# Altium integrated library Capacitors - Ceramic - 0402.IntLib: 4569 symbols (part 13 of 100)
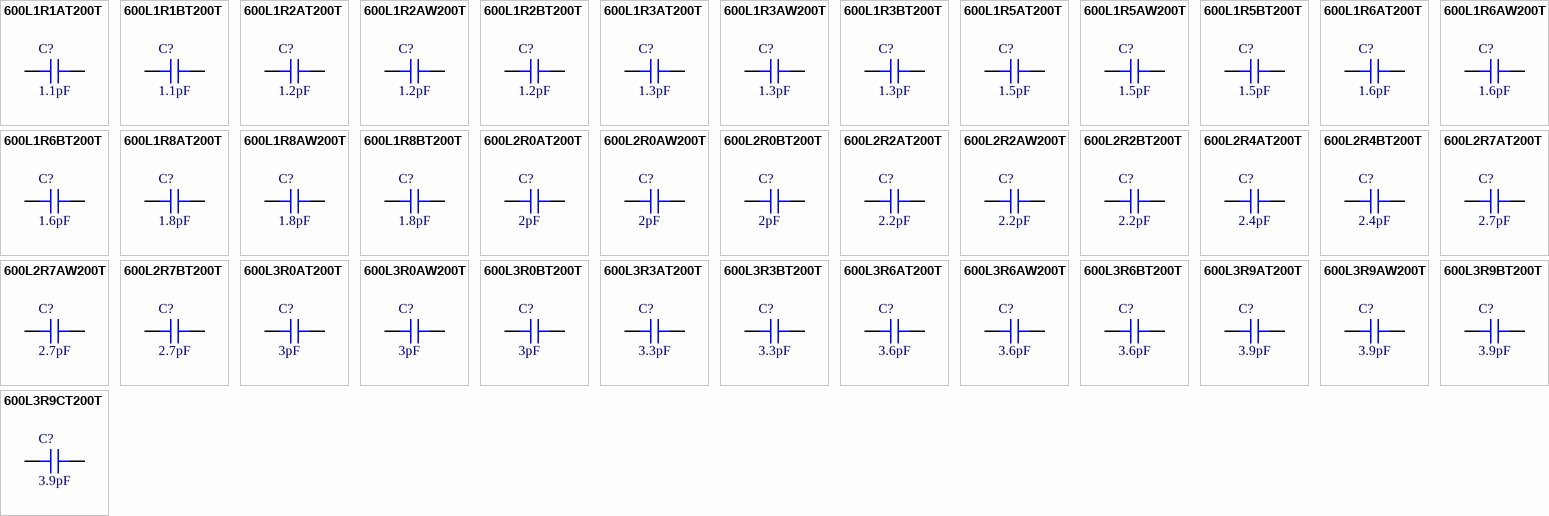
[diagram p126: symbols 600L1R1AT200T to 600L3R9CT200T]

## 600L2R7BT200T
designator C?, comment 2.7pF
CAP CER 2.7PF 200V C0G/NP0 0402; Part Number: 600L2R7BT200T; Manufacturer: American Technical Ceramics; Temperature Coefficient: C0G, NP0; Tolerance: ±0.1pF; Value: 2.7pF; Applications: RF, Microwave, High Frequency, Bypass, Decoupling; Capacitance: 2.7pF; ComponentLink1Description: Datasheet; ComponentLink1URL: http://www.atceramics.com/UserFiles/600l.pdf; ComponentLink2Description: DigiKey Link; ComponentLink2URL: http://digikey.com/product-detail/en/american-technical-ceramics/600L2R7BT200T/1284-1123-1-ND/3905479; Device Package: 0402 (1005 Metric); Features: High Q, Low Loss, Ultra Low ESR; LastUpdated: 9/2/2020 1:02:13 AM; Lifecycle Status: Active; Minimum Order: 1; Mounting Type: Surface Mount, MLCC; Operating Temperature: -55°C ~ 125°C; Package / Case: 0402 (1005 Metric); Packaging: TapeAndReel; PartId: 6941; Part Status: Active; Price: 0.27; Series: ATC 600L; Size / Dimension: 0.040" L x 0.020" W (1.02mm x 0.51mm); Supplier 1: DigiKey; Supplier Part Number 1: 1284-1123-1-ND; Thickness (Max): 0.024" (0.60mm); Voltage - Rated: 200V
footprint CAP 0402_1005
pins: 1, 2

## 600L3R0AT200T
designator C?, comment 3pF
CAP CER 3PF 200V C0G/NP0 0402; Part Number: 600L3R0AT200T; Manufacturer: American Technical Ceramics; Temperature Coefficient: C0G, NP0; Tolerance: ±0.05pF; Value: 3pF; Applications: RF, Microwave, High Frequency, Bypass, Decoupling; Capacitance: 3pF; ComponentLink1Description: Datasheet; ComponentLink1URL: http://www.atceramics.com/UserFiles/600l.pdf; ComponentLink2Description: DigiKey Link; ComponentLink2URL: http://digikey.com/product-detail/en/american-technical-ceramics/600L3R0AT200T/1284-1363-1-ND/5767799; Device Package: 0402 (1005 Metric); Features: High Q, Low Loss, Ultra Low ESR; LastUpdated: 9/2/2020 1:01:30 AM; Lifecycle Status: Active; Minimum Order: 1; Mounting Type: Surface Mount, MLCC; Operating Temperature: -55°C ~ 125°C; Package / Case: 0402 (1005 Metric); Packaging: TapeAndReel; PartId: 12888; Part Status: Active; Price: 0.56; Series: ATC 600L; Size / Dimension: 0.040" L x 0.020" W (1.02mm x 0.51mm); Supplier 1: DigiKey; Supplier Part Number 1: 1284-1363-1-ND; Thickness (Max): 0.024" (0.60mm); Voltage - Rated: 200V
footprint CAP 0402_1005
pins: 1, 2

## 600L3R0AW200T
designator C?, comment 3pF
CAP CER 3PF 200V NP0 0402; Part Number: 600L3R0AW200T; Manufacturer: American Technical Ceramics; Temperature Coefficient: C0G, NP0; Tolerance: ±0.05pF; Value: 3pF; Applications: RF, Microwave, High Frequency, Bypass, Decoupling; Capacitance: 3pF; ComponentLink1Description: Datasheet; ComponentLink1URL: http://www.atceramics.com/UserFiles/600l.pdf; ComponentLink2Description: DigiKey Link; ComponentLink2URL: http://digikey.com/product-detail/en/american-technical-ceramics/600L3R0AW200T/478-12303-1-ND/9602740; Device Package: 0402 (1005 Metric); Features: High Q, Low Loss, Ultra Low ESR; LastUpdated: 9/2/2020 1:02:08 AM; Lifecycle Status: Active; Minimum Order: 1; Mounting Type: Surface Mount, MLCC; Operating Temperature: -55°C ~ 125°C; Package / Case: 0402 (1005 Metric); Packaging: TapeAndReel; PartId: 9190; Part Status: Active; Price: 0.46; Series: ATC 600L; Size / Dimension: 0.040" L x 0.020" W (1.02mm x 0.51mm); Supplier 1: DigiKey; Supplier Part Number 1: 478-12303-1-ND; Thickness (Max): 0.024" (0.60mm); Voltage - Rated: 200V
footprint CAP 0402_1005
pins: 1, 2

## 600L3R0BT200T
designator C?, comment 3pF
CAP CER 3PF 200V C0G/NP0 0402; Part Number: 600L3R0BT200T; Manufacturer: American Technical Ceramics; Temperature Coefficient: C0G, NP0; Tolerance: ±0.1pF; Value: 3pF; Applications: RF, Microwave, High Frequency, Bypass, Decoupling; Capacitance: 3pF; ComponentLink1Description: Datasheet; ComponentLink1URL: http://www.atceramics.com/UserFiles/600l.pdf; ComponentLink2Description: DigiKey Link; ComponentLink2URL: http://digikey.com/product-detail/en/american-technical-ceramics/600L3R0BT200T/1284-1124-1-ND/3905480; Device Package: 0402 (1005 Metric); Features: High Q, Low Loss, Ultra Low ESR; LastUpdated: 9/2/2020 1:02:13 AM; Lifecycle Status: Active; Minimum Order: 1; Mounting Type: Surface Mount, MLCC; Operating Temperature: -55°C ~ 125°C; Package / Case: 0402 (1005 Metric); Packaging: TapeAndReel; PartId: 6862; Part Status: Active; Price: 0.27; Series: ATC 600L; Size / Dimension: 0.040" L x 0.020" W (1.02mm x 0.51mm); Supplier 1: DigiKey; Supplier Part Number 1: 1284-1124-1-ND; Thickness (Max): 0.024" (0.60mm); Voltage - Rated: 200V
footprint CAP 0402_1005
pins: 1, 2

## 600L3R3AT200T
designator C?, comment 3.3pF
CAP CER 3.3PF 200V NP0 0402; Part Number: 600L3R3AT200T; Manufacturer: American Technical Ceramics; Temperature Coefficient: C0G, NP0; Tolerance: ±0.05pF; Value: 3.3pF; Applications: RF, Microwave, High Frequency, Bypass, Decoupling; Capacitance: 3.3pF; ComponentLink1Description: Datasheet; ComponentLink1URL: http://www.atceramics.com/UserFiles/600l.pdf; ComponentLink2Description: DigiKey Link; ComponentLink2URL: http://digikey.com/product-detail/en/american-technical-ceramics/600L3R3AT200T/1284-1869-1-ND/8269403; Device Package: 0402 (1005 Metric); Features: High Q, Low Loss, Ultra Low ESR; LastUpdated: 9/2/2020 1:02:25 AM; Lifecycle Status: Active; Minimum Order: 1; Mounting Type: Surface Mount, MLCC; Operating Temperature: -55°C ~ 125°C; Package / Case: 0402 (1005 Metric); Packaging: TapeAndReel; PartId: 1716; Part Status: Active; Price: 0.53; Series: ATC 600L; Size / Dimension: 0.040" L x 0.020" W (1.02mm x 0.51mm); Supplier 1: DigiKey; Supplier Part Number 1: 1284-1869-1-ND; Thickness (Max): 0.024" (0.60mm); Voltage - Rated: 200V
footprint CAP 0402_1005
pins: 1, 2

## 600L3R3BT200T
designator C?, comment 3.3pF
CAP CER 3.3PF 200V C0G/NP0 0402; Part Number: 600L3R3BT200T; Manufacturer: American Technical Ceramics; Temperature Coefficient: C0G, NP0; Tolerance: ±0.1pF; Value: 3.3pF; Applications: RF, Microwave, High Frequency, Bypass, Decoupling; Capacitance: 3.3pF; ComponentLink1Description: Datasheet; ComponentLink1URL: http://www.atceramics.com/UserFiles/600l.pdf; ComponentLink2Description: DigiKey Link; ComponentLink2URL: http://digikey.com/product-detail/en/american-technical-ceramics/600L3R3BT200T/1284-1125-1-ND/3905481; Device Package: 0402 (1005 Metric); Features: High Q, Low Loss, Ultra Low ESR; LastUpdated: 9/2/2020 1:02:17 AM; Lifecycle Status: Active; Minimum Order: 1; Mounting Type: Surface Mount, MLCC; Operating Temperature: -55°C ~ 125°C; Package / Case: 0402 (1005 Metric); Packaging: TapeAndReel; PartId: 5005; Part Status: Active; Price: 0.28; Series: ATC 600L; Size / Dimension: 0.040" L x 0.020" W (1.02mm x 0.51mm); Supplier 1: DigiKey; Supplier Part Number 1: 1284-1125-1-ND; Thickness (Max): 0.024" (0.60mm); Voltage - Rated: 200V
footprint CAP 0402_1005
pins: 1, 2

## 600L3R6AT200T
designator C?, comment 3.6pF
CAP CER 3.6PF 200V C0G/NP0 0402; Part Number: 600L3R6AT200T; Manufacturer: American Technical Ceramics; Temperature Coefficient: C0G, NP0; Tolerance: ±0.05pF; Value: 3.6pF; Applications: RF, Microwave, High Frequency, Bypass, Decoupling; Capacitance: 3.6pF; ComponentLink1Description: Datasheet; ComponentLink1URL: http://www.atceramics.com/UserFiles/600l.pdf; ComponentLink2Description: DigiKey Link; ComponentLink2URL: http://digikey.com/product-detail/en/american-technical-ceramics/600L3R6AT200T/1284-1126-1-ND/3905482; Device Package: 0402 (1005 Metric); Features: High Q, Low Loss, Ultra Low ESR; LastUpdated: 9/2/2020 1:02:24 AM; Lifecycle Status: Active; Minimum Order: 1; Mounting Type: Surface Mount, MLCC; Operating Temperature: -55°C ~ 125°C; Package / Case: 0402 (1005 Metric); Packaging: TapeAndReel; PartId: 2064; Part Status: Active; Price: 0.53; Series: ATC 600L; Size / Dimension: 0.040" L x 0.020" W (1.02mm x 0.51mm); Supplier 1: DigiKey; Supplier Part Number 1: 1284-1126-1-ND; Thickness (Max): 0.024" (0.60mm); Voltage - Rated: 200V
footprint CAP 0402_1005
pins: 1, 2

## 600L3R6AW200T
designator C?, comment 3.6pF
CAP CER 3.6PF 200V NP0 0402; Part Number: 600L3R6AW200T; Manufacturer: American Technical Ceramics; Temperature Coefficient: C0G, NP0; Tolerance: ±0.05pF; Value: 3.6pF; Applications: RF, Microwave, High Frequency, Bypass, Decoupling; Capacitance: 3.6pF; ComponentLink1Description: Datasheet; ComponentLink1URL: http://www.atceramics.com/UserFiles/600l.pdf; ComponentLink2Description: DigiKey Link; ComponentLink2URL: http://digikey.com/product-detail/en/american-technical-ceramics/600L3R6AW200T/478-12304-1-ND/9602741; Device Package: 0402 (1005 Metric); Features: High Q, Low Loss, Ultra Low ESR; LastUpdated: 9/2/2020 1:02:08 AM; Lifecycle Status: Active; Minimum Order: 1; Mounting Type: Surface Mount, MLCC; Operating Temperature: -55°C ~ 125°C; Package / Case: 0402 (1005 Metric); Packaging: TapeAndReel; PartId: 9196; Part Status: Active; Price: 0.53; Series: ATC 600L; Size / Dimension: 0.040" L x 0.020" W (1.02mm x 0.51mm); Supplier 1: DigiKey; Supplier Part Number 1: 478-12304-1-ND; Thickness (Max): 0.024" (0.60mm); Voltage - Rated: 200V
footprint CAP 0402_1005
pins: 1, 2

## 600L3R6BT200T
designator C?, comment 3.6pF
CAP CER 3.6PF 200V NP0 0402; Part Number: 600L3R6BT200T; Manufacturer: American Technical Ceramics; Temperature Coefficient: C0G, NP0; Tolerance: ±0.1pF; Value: 3.6pF; Applications: RF, Microwave, High Frequency, Bypass, Decoupling; Capacitance: 3.6pF; ComponentLink1Description: Datasheet; ComponentLink1URL: http://www.atceramics.com/UserFiles/600l.pdf; ComponentLink2Description: DigiKey Link; ComponentLink2URL: http://digikey.com/product-detail/en/american-technical-ceramics/600L3R6BT200T/1284-1921-1-ND/9450726; Device Package: 0402 (1005 Metric); Features: High Q, Low Loss, Ultra Low ESR; LastUpdated: 9/2/2020 1:02:22 AM; Lifecycle Status: Active; Minimum Order: 1; Mounting Type: Surface Mount, MLCC; Operating Temperature: -55°C ~ 125°C; Package / Case: 0402 (1005 Metric); Packaging: TapeAndReel; PartId: 2857; Part Status: Active; Price: 0.61; Series: ATC 600L; Size / Dimension: 0.040" L x 0.020" W (1.02mm x 0.51mm); Supplier 1: DigiKey; Supplier Part Number 1: 1284-1921-1-ND; Thickness (Max): 0.024" (0.60mm); Voltage - Rated: 200V
footprint CAP 0402_1005
pins: 1, 2

## 600L3R9AT200T
designator C?, comment 3.9pF
CAP CER 3.9PF 200V NP0 0402; Part Number: 600L3R9AT200T; Manufacturer: American Technical Ceramics; Temperature Coefficient: C0G, NP0; Tolerance: ±0.05pF; Value: 3.9pF; Applications: RF, Microwave, High Frequency, Bypass, Decoupling; Capacitance: 3.9pF; ComponentLink1Description: Datasheet; ComponentLink1URL: http://www.atceramics.com/UserFiles/600l.pdf; ComponentLink2Description: DigiKey Link; ComponentLink2URL: http://digikey.com/product-detail/en/american-technical-ceramics/600L3R9AT200T/1284-1922-1-ND/9450727; Device Package: 0402 (1005 Metric); Features: High Q, Low Loss, Ultra Low ESR; LastUpdated: 9/2/2020 1:02:05 AM; Lifecycle Status: Active; Minimum Order: 1; Mounting Type: Surface Mount, MLCC; Operating Temperature: -55°C ~ 125°C; Package / Case: 0402 (1005 Metric); Packaging: TapeAndReel; PartId: 10356; Part Status: Active; Price: 0.95; Series: ATC 600L; Size / Dimension: 0.040" L x 0.020" W (1.02mm x 0.51mm); Supplier 1: DigiKey; Supplier Part Number 1: 1284-1922-1-ND; Thickness (Max): 0.024" (0.60mm); Voltage - Rated: 200V
footprint CAP 0402_1005
pins: 1, 2

## 600L3R9AW200T
designator C?, comment 3.9pF
CAP CER 3.9PF 200V NP0 0402; Part Number: 600L3R9AW200T; Manufacturer: American Technical Ceramics; Temperature Coefficient: C0G, NP0; Tolerance: ±0.05pF; Value: 3.9pF; Applications: RF, Microwave, High Frequency, Bypass, Decoupling; Capacitance: 3.9pF; ComponentLink1Description: Datasheet; ComponentLink1URL: http://www.atceramics.com/UserFiles/600l.pdf; ComponentLink2Description: DigiKey Link; ComponentLink2URL: http://digikey.com/product-detail/en/american-technical-ceramics/600L3R9AW200T/478-12305-1-ND/9602742; Device Package: 0402 (1005 Metric); Features: High Q, Low Loss, Ultra Low ESR; LastUpdated: 9/2/2020 1:02:08 AM; Lifecycle Status: Active; Minimum Order: 1; Mounting Type: Surface Mount, MLCC; Operating Temperature: -55°C ~ 125°C; Package / Case: 0402 (1005 Metric); Packaging: TapeAndReel; PartId: 9199; Part Status: Active; Price: 0.53; Series: ATC 600L; Size / Dimension: 0.040" L x 0.020" W (1.02mm x 0.51mm); Supplier 1: DigiKey; Supplier Part Number 1: 478-12305-1-ND; Thickness (Max): 0.024" (0.60mm); Voltage - Rated: 200V
footprint CAP 0402_1005
pins: 1, 2

## 600L3R9BT200T
designator C?, comment 3.9pF
CAP CER 3.9PF 200V C0G/NP0 0402; Part Number: 600L3R9BT200T; Manufacturer: American Technical Ceramics; Temperature Coefficient: C0G, NP0; Tolerance: ±0.1pF; Value: 3.9pF; Applications: RF, Microwave, High Frequency, Bypass, Decoupling; Capacitance: 3.9pF; ComponentLink1Description: Datasheet; ComponentLink1URL: http://www.atceramics.com/UserFiles/600l.pdf; ComponentLink2Description: DigiKey Link; ComponentLink2URL: http://digikey.com/product-detail/en/american-technical-ceramics/600L3R9BT200T/1284-1127-1-ND/3905483; Device Package: 0402 (1005 Metric); Features: High Q, Low Loss, Ultra Low ESR; LastUpdated: 9/2/2020 1:02:17 AM; Lifecycle Status: Active; Minimum Order: 1; Mounting Type: Surface Mount, MLCC; Operating Temperature: -55°C ~ 125°C; Package / Case: 0402 (1005 Metric); Packaging: TapeAndReel; PartId: 5008; Part Status: Active; Price: 0.31; Series: ATC 600L; Size / Dimension: 0.040" L x 0.020" W (1.02mm x 0.51mm); Supplier 1: DigiKey; Supplier Part Number 1: 1284-1127-1-ND; Thickness (Max): 0.024" (0.60mm); Voltage - Rated: 200V
footprint CAP 0402_1005
pins: 1, 2

## 600L3R9CT200T
designator C?, comment 3.9pF
CAP CER 3.9PF 200V NP0 0402; Part Number: 600L3R9CT200T; Manufacturer: American Technical Ceramics; Temperature Coefficient: C0G, NP0; Tolerance: ±0.25pF; Value: 3.9pF; Applications: RF, Microwave, High Frequency, Bypass, Decoupling; Capacitance: 3.9pF; ComponentLink1Description: Datasheet; ComponentLink1URL: http://www.atceramics.com/UserFiles/600l.pdf; ComponentLink2Description: DigiKey Link; ComponentLink2URL: http://digikey.com/product-detail/en/american-technical-ceramics/600L3R9CT200T/1284-1923-1-ND/9450728; Device Package: 0402 (1005 Metric); Features: High Q, Low Loss, Ultra Low ESR; LastUpdated: 9/2/2020 1:02:08 AM; Lifecycle Status: Active; Minimum Order: 1; Mounting Type: Surface Mount, MLCC; Operating Temperature: -55°C ~ 125°C; Package / Case: 0402 (1005 Metric); Packaging: TapeAndReel; PartId: 9181; Part Status: Active; Price: 0.46; Series: ATC 600L; Size / Dimension: 0.040" L x 0.020" W (1.02mm x 0.51mm); Supplier 1: DigiKey; Supplier Part Number 1: 1284-1923-1-ND; Thickness (Max): 0.024" (0.60mm); Voltage - Rated: 200V
footprint CAP 0402_1005
pins: 1, 2

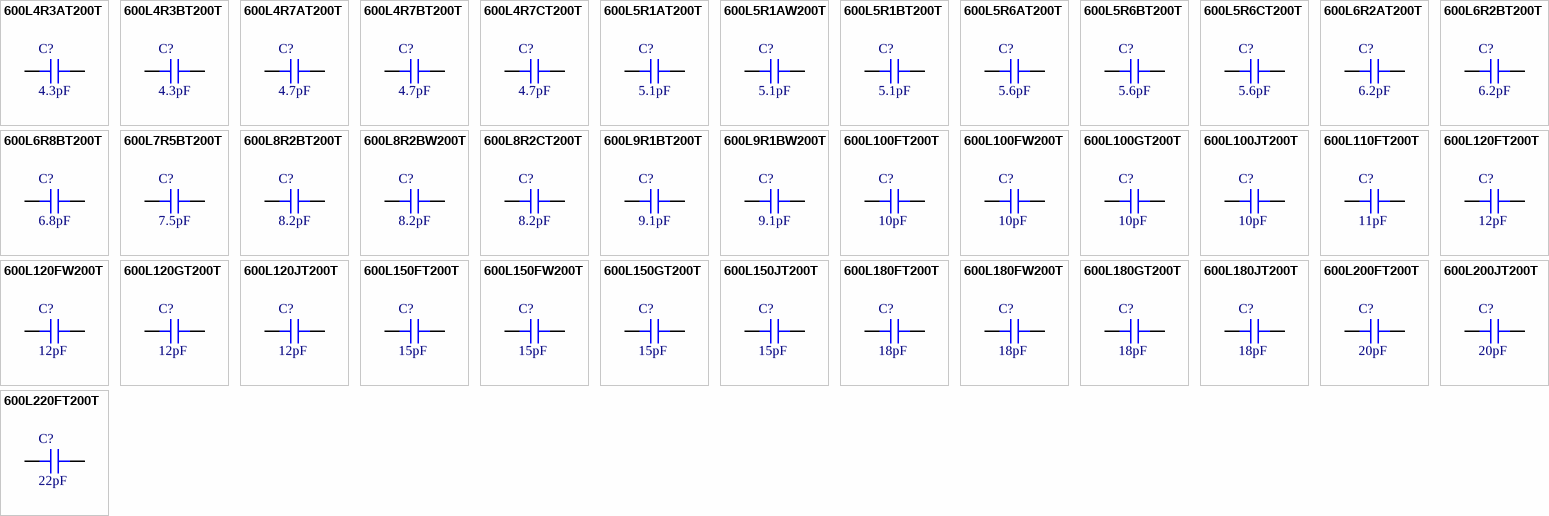
[diagram p14: symbols 600L4R3AT200T to 600L220FT200T]

## 600L4R3AT200T
designator C?, comment 4.3pF
CAP CER 4.3PF 200V C0G/NP0 0402; Part Number: 600L4R3AT200T; Manufacturer: American Technical Ceramics; Temperature Coefficient: C0G, NP0; Tolerance: ±0.05pF; Value: 4.3pF; Applications: RF, Microwave, High Frequency, Bypass, Decoupling; Capacitance: 4.3pF; ComponentLink1Description: Datasheet; ComponentLink1URL: http://www.atceramics.com/UserFiles/600l.pdf; ComponentLink2Description: DigiKey Link; ComponentLink2URL: http://digikey.com/product-detail/en/american-technical-ceramics/600L4R3AT200T/1284-1128-1-ND/3905484; Device Package: 0402 (1005 Metric); Features: High Q, Low Loss, Ultra Low ESR; LastUpdated: 9/2/2020 1:01:45 AM; Lifecycle Status: Active; Minimum Order: 1; Mounting Type: Surface Mount, MLCC; Operating Temperature: -55°C ~ 125°C; Package / Case: 0402 (1005 Metric); Packaging: TapeAndReel; PartId: 12358; Part Status: Active; Price: 0.95; Series: ATC 600L; Size / Dimension: 0.040" L x 0.020" W (1.02mm x 0.51mm); Supplier 1: DigiKey; Supplier Part Number 1: 1284-1128-1-ND; Thickness (Max): 0.024" (0.60mm); Voltage - Rated: 200V
footprint CAP 0402_1005
pins: 1, 2

## 600L4R3BT200T
designator C?, comment 4.3pF
CAP CER 4.3PF 200V NP0 0402; Part Number: 600L4R3BT200T; Manufacturer: American Technical Ceramics; Temperature Coefficient: C0G, NP0; Tolerance: ±0.1pF; Value: 4.3pF; Applications: RF, Microwave, High Frequency, Bypass, Decoupling; Capacitance: 4.3pF; ComponentLink1Description: Datasheet; ComponentLink1URL: http://www.atceramics.com/UserFiles/600l.pdf; ComponentLink2Description: DigiKey Link; ComponentLink2URL: http://digikey.com/product-detail/en/american-technical-ceramics/600L4R3BT200T/1284-1924-1-ND/9450729; Device Package: 0402 (1005 Metric); Features: High Q, Low Loss, Ultra Low ESR; LastUpdated: 9/2/2020 1:02:13 AM; Lifecycle Status: Active; Minimum Order: 1; Mounting Type: Surface Mount, MLCC; Operating Temperature: -55°C ~ 125°C; Package / Case: 0402 (1005 Metric); Packaging: TapeAndReel; PartId: 6945; Part Status: Active; Price: 0.31; Series: ATC 600L; Size / Dimension: 0.040" L x 0.020" W (1.02mm x 0.51mm); Supplier 1: DigiKey; Supplier Part Number 1: 1284-1924-1-ND; Thickness (Max): 0.024" (0.60mm); Voltage - Rated: 200V
footprint CAP 0402_1005
pins: 1, 2

## 600L4R7AT200T
designator C?, comment 4.7pF
CAP CER 4.7PF 200V C0G/NP0 0402; Part Number: 600L4R7AT200T; Manufacturer: American Technical Ceramics; Temperature Coefficient: C0G, NP0; Tolerance: ±0.05pF; Value: 4.7pF; Applications: RF, Microwave, High Frequency, Bypass, Decoupling; Capacitance: 4.7pF; ComponentLink1Description: Datasheet; ComponentLink1URL: http://www.atceramics.com/UserFiles/600l.pdf; ComponentLink2Description: DigiKey Link; ComponentLink2URL: http://digikey.com/product-detail/en/american-technical-ceramics/600L4R7AT200T/1284-1364-1-ND/5767800; Device Package: 0402 (1005 Metric); Features: High Q, Low Loss, Ultra Low ESR; LastUpdated: 9/2/2020 1:01:30 AM; Lifecycle Status: Active; Minimum Order: 1; Mounting Type: Surface Mount, MLCC; Operating Temperature: -55°C ~ 125°C; Package / Case: 0402 (1005 Metric); Packaging: TapeAndReel; PartId: 12891; Part Status: Active; Price: 0.95; Series: ATC 600L; Size / Dimension: 0.040" L x 0.020" W (1.02mm x 0.51mm); Supplier 1: DigiKey; Supplier Part Number 1: 1284-1364-1-ND; Thickness (Max): 0.024" (0.60mm); Voltage - Rated: 200V
footprint CAP 0402_1005
pins: 1, 2

## 600L4R7BT200T
designator C?, comment 4.7pF
CAP CER 4.7PF 200V C0G/NP0 0402; Part Number: 600L4R7BT200T; Manufacturer: American Technical Ceramics; Temperature Coefficient: C0G, NP0; Tolerance: ±0.1pF; Value: 4.7pF; Applications: RF, Microwave, High Frequency, Bypass, Decoupling; Capacitance: 4.7pF; ComponentLink1Description: Datasheet; ComponentLink1URL: http://www.atceramics.com/UserFiles/600l.pdf; ComponentLink2Description: DigiKey Link; ComponentLink2URL: http://digikey.com/product-detail/en/american-technical-ceramics/600L4R7BT200T/1284-1129-1-ND/3905485; Device Package: 0402 (1005 Metric); Features: High Q, Low Loss, Ultra Low ESR; LastUpdated: 9/2/2020 1:02:20 AM; Lifecycle Status: Active; Minimum Order: 1; Mounting Type: Surface Mount, MLCC; Operating Temperature: -55°C ~ 125°C; Package / Case: 0402 (1005 Metric); Packaging: TapeAndReel; PartId: 3818; Part Status: Active; Price: 0.28; Series: ATC 600L; Size / Dimension: 0.040" L x 0.020" W (1.02mm x 0.51mm); Supplier 1: DigiKey; Supplier Part Number 1: 1284-1129-1-ND; Thickness (Max): 0.024" (0.60mm); Voltage - Rated: 200V
footprint CAP 0402_1005
pins: 1, 2

## 600L4R7CT200T
designator C?, comment 4.7pF
CAP CER 4.7PF 200V NP0 0402; Part Number: 600L4R7CT200T; Manufacturer: American Technical Ceramics; Temperature Coefficient: C0G, NP0; Tolerance: ±0.25pF; Value: 4.7pF; Applications: RF, Microwave, High Frequency, Bypass, Decoupling; Capacitance: 4.7pF; ComponentLink1Description: Datasheet; ComponentLink1URL: http://www.atceramics.com/UserFiles/600l.pdf; ComponentLink2Description: DigiKey Link; ComponentLink2URL: http://digikey.com/product-detail/en/american-technical-ceramics/600L4R7CT200T/1284-1870-1-ND/8269404; Device Package: 0402 (1005 Metric); Features: High Q, Low Loss, Ultra Low ESR; LastUpdated: 9/2/2020 1:02:25 AM; Lifecycle Status: Active; Minimum Order: 1; Mounting Type: Surface Mount, MLCC; Operating Temperature: -55°C ~ 125°C; Package / Case: 0402 (1005 Metric); Packaging: TapeAndReel; PartId: 1809; Part Status: Active; Price: 0.20; Series: ATC 600L; Size / Dimension: 0.040" L x 0.020" W (1.02mm x 0.51mm); Supplier 1: DigiKey; Supplier Part Number 1: 1284-1870-1-ND; Thickness (Max): 0.024" (0.60mm); Voltage - Rated: 200V
footprint CAP 0402_1005
pins: 1, 2

## 600L5R1AT200T
designator C?, comment 5.1pF
CAP CER 5.1PF 200V C0G/NP0 0402; Part Number: 600L5R1AT200T; Manufacturer: American Technical Ceramics; Temperature Coefficient: C0G, NP0; Tolerance: ±0.05pF; Value: 5.1pF; Applications: RF, Microwave, High Frequency, Bypass, Decoupling; Capacitance: 5.1pF; ComponentLink1Description: Datasheet; ComponentLink1URL: http://www.atceramics.com/UserFiles/600l.pdf; ComponentLink2Description: DigiKey Link; ComponentLink2URL: http://digikey.com/product-detail/en/american-technical-ceramics/600L5R1AT200T/1284-1130-1-ND/3905486; Device Package: 0402 (1005 Metric); Features: High Q, Low Loss, Ultra Low ESR; LastUpdated: 9/2/2020 1:02:19 AM; Lifecycle Status: Active; Minimum Order: 1; Mounting Type: Surface Mount, MLCC; Operating Temperature: -55°C ~ 125°C; Package / Case: 0402 (1005 Metric); Packaging: TapeAndReel; PartId: 4261; Part Status: Active; Price: 0.62; Series: ATC 600L; Size / Dimension: 0.040" L x 0.020" W (1.02mm x 0.51mm); Supplier 1: DigiKey; Supplier Part Number 1: 1284-1130-1-ND; Thickness (Max): 0.024" (0.60mm); Voltage - Rated: 200V
footprint CAP 0402_1005
pins: 1, 2

## 600L5R1AW200T
designator C?, comment 5.1pF
CAP CER 5.1PF 200V NP0 0402; Part Number: 600L5R1AW200T; Manufacturer: American Technical Ceramics; Temperature Coefficient: C0G, NP0; Tolerance: ±0.05pF; Value: 5.1pF; Applications: RF, Microwave, High Frequency, Bypass, Decoupling; Capacitance: 5.1pF; ComponentLink1Description: Datasheet; ComponentLink1URL: http://www.atceramics.com/UserFiles/600l.pdf; ComponentLink2Description: DigiKey Link; ComponentLink2URL: http://digikey.com/product-detail/en/american-technical-ceramics/600L5R1AW200T/1284-1871-1-ND/8269405; Device Package: 0402 (1005 Metric); Features: High Q, Low Loss, Ultra Low ESR; LastUpdated: 9/2/2020 1:02:11 AM; Lifecycle Status: Active; Minimum Order: 1; Mounting Type: Surface Mount, MLCC; Operating Temperature: -55°C ~ 125°C; Package / Case: 0402 (1005 Metric); Packaging: TapeAndReel; PartId: 7912; Part Status: Active; Price: 0.62; Series: ATC 600L; Size / Dimension: 0.040" L x 0.020" W (1.02mm x 0.51mm); Supplier 1: DigiKey; Supplier Part Number 1: 1284-1871-1-ND; Thickness (Max): 0.024" (0.60mm); Voltage - Rated: 200V
footprint CAP 0402_1005
pins: 1, 2

## 600L5R1BT200T
designator C?, comment 5.1pF
CAP CER 5.1PF 200V NP0 0402; Part Number: 600L5R1BT200T; Manufacturer: American Technical Ceramics; Temperature Coefficient: C0G, NP0; Tolerance: ±0.1pF; Value: 5.1pF; Applications: RF, Microwave, High Frequency, Bypass, Decoupling; Capacitance: 5.1pF; ComponentLink1Description: Datasheet; ComponentLink1URL: http://www.atceramics.com/UserFiles/600l.pdf; ComponentLink2Description: DigiKey Link; ComponentLink2URL: http://digikey.com/product-detail/en/american-technical-ceramics/600L5R1BT200T/1284-1925-1-ND/9450730; Device Package: 0402 (1005 Metric); Features: High Q, Low Loss, Ultra Low ESR; LastUpdated: 9/2/2020 1:02:24 AM; Lifecycle Status: Active; Minimum Order: 1; Mounting Type: Surface Mount, MLCC; Operating Temperature: -55°C ~ 125°C; Package / Case: 0402 (1005 Metric); Packaging: TapeAndReel; PartId: 2068; Part Status: Active; Price: 0.71; Series: ATC 600L; Size / Dimension: 0.040" L x 0.020" W (1.02mm x 0.51mm); Supplier 1: DigiKey; Supplier Part Number 1: 1284-1925-1-ND; Thickness (Max): 0.024" (0.60mm); Voltage - Rated: 200V
footprint CAP 0402_1005
pins: 1, 2

## 600L5R6AT200T
designator C?, comment 5.6pF
CAP CER 5.6PF 200V C0G/NP0 0402; Part Number: 600L5R6AT200T; Manufacturer: American Technical Ceramics; Temperature Coefficient: C0G, NP0; Tolerance: ±0.05pF; Value: 5.6pF; Applications: RF, Microwave, High Frequency, Bypass, Decoupling; Capacitance: 5.6pF; ComponentLink1Description: Datasheet; ComponentLink1URL: http://www.atceramics.com/UserFiles/600l.pdf; ComponentLink2Description: DigiKey Link; ComponentLink2URL: http://digikey.com/product-detail/en/american-technical-ceramics/600L5R6AT200T/1284-1131-1-ND/3905487; Device Package: 0402 (1005 Metric); Features: High Q, Low Loss, Ultra Low ESR; LastUpdated: 9/2/2020 1:02:22 AM; Lifecycle Status: Active; Minimum Order: 1; Mounting Type: Surface Mount, MLCC; Operating Temperature: -55°C ~ 125°C; Package / Case: 0402 (1005 Metric); Packaging: TapeAndReel; PartId: 2570; Part Status: Active; Price: 0.62; Series: ATC 600L; Size / Dimension: 0.040" L x 0.020" W (1.02mm x 0.51mm); Supplier 1: DigiKey; Supplier Part Number 1: 1284-1131-1-ND; Thickness (Max): 0.024" (0.60mm); Voltage - Rated: 200V
footprint CAP 0402_1005
pins: 1, 2

## 600L5R6BT200T
designator C?, comment 5.6pF
CAP CER 5.6PF 200V C0G/NP0 0402; Part Number: 600L5R6BT200T; Manufacturer: American Technical Ceramics; Temperature Coefficient: C0G, NP0; Tolerance: ±0.1pF; Value: 5.6pF; Applications: RF, Microwave, High Frequency, Bypass, Decoupling; Capacitance: 5.6pF; ComponentLink1Description: Datasheet; ComponentLink1URL: http://www.atceramics.com/UserFiles/600l.pdf; ComponentLink2Description: DigiKey Link; ComponentLink2URL: http://digikey.com/product-detail/en/american-technical-ceramics/600L5R6BT200T/1284-1132-1-ND/3905325; Device Package: 0402 (1005 Metric); Features: High Q, Low Loss, Ultra Low ESR; LastUpdated: 9/2/2020 1:02:07 AM; Lifecycle Status: Active; Minimum Order: 1; Mounting Type: Surface Mount, MLCC; Operating Temperature: -55°C ~ 125°C; Package / Case: 0402 (1005 Metric); Packaging: TapeAndReel; PartId: 9399; Part Status: Active; Price: 0.33; Series: ATC 600L; Size / Dimension: 0.040" L x 0.020" W (1.02mm x 0.51mm); Supplier 1: DigiKey; Supplier Part Number 1: 1284-1132-1-ND; Thickness (Max): 0.024" (0.60mm); Voltage - Rated: 200V
footprint CAP 0402_1005
pins: 1, 2

## 600L5R6CT200T
designator C?, comment 5.6pF
CAP CER 5.6PF 200V NP0 0402; Part Number: 600L5R6CT200T; Manufacturer: American Technical Ceramics; Temperature Coefficient: C0G, NP0; Tolerance: ±0.25pF; Value: 5.6pF; Applications: RF, Microwave, High Frequency, Bypass, Decoupling; Capacitance: 5.6pF; ComponentLink1Description: Datasheet; ComponentLink1URL: http://www.atceramics.com/UserFiles/600l.pdf; ComponentLink2Description: DigiKey Link; ComponentLink2URL: http://digikey.com/product-detail/en/american-technical-ceramics/600L5R6CT200T/1284-1926-1-ND/9450731; Device Package: 0402 (1005 Metric); Features: High Q, Low Loss, Ultra Low ESR; LastUpdated: 9/2/2020 1:02:13 AM; Lifecycle Status: Active; Minimum Order: 1; Mounting Type: Surface Mount, MLCC; Operating Temperature: -55°C ~ 125°C; Package / Case: 0402 (1005 Metric); Packaging: TapeAndReel; PartId: 6859; Part Status: Active; Price: 0.25; Series: ATC 600L; Size / Dimension: 0.040" L x 0.020" W (1.02mm x 0.51mm); Supplier 1: DigiKey; Supplier Part Number 1: 1284-1926-1-ND; Thickness (Max): 0.024" (0.60mm); Voltage - Rated: 200V
footprint CAP 0402_1005
pins: 1, 2

## 600L6R2AT200T
designator C?, comment 6.2pF
CAP CER 6.2PF 200V NP0 0402; Part Number: 600L6R2AT200T; Manufacturer: American Technical Ceramics; Temperature Coefficient: C0G, NP0; Tolerance: ±0.05pF; Value: 6.2pF; Applications: RF, Microwave, High Frequency, Bypass, Decoupling; Capacitance: 6.2pF; ComponentLink1Description: Datasheet; ComponentLink1URL: http://www.atceramics.com/UserFiles/600l.pdf; ComponentLink2Description: DigiKey Link; ComponentLink2URL: http://digikey.com/product-detail/en/american-technical-ceramics/600L6R2AT200T/1284-1927-1-ND/9450732; Device Package: 0402 (1005 Metric); Features: High Q, Low Loss, Ultra Low ESR; LastUpdated: 9/2/2020 1:02:05 AM; Lifecycle Status: Active; Minimum Order: 1; Mounting Type: Surface Mount, MLCC; Operating Temperature: -55°C ~ 125°C; Package / Case: 0402 (1005 Metric); Packaging: TapeAndReel; PartId: 10369; Part Status: Active; Price: 1.11; Series: ATC 600L; Size / Dimension: 0.040" L x 0.020" W (1.02mm x 0.51mm); Supplier 1: DigiKey; Supplier Part Number 1: 1284-1927-1-ND; Thickness (Max): 0.024" (0.60mm); Voltage - Rated: 200V
footprint CAP 0402_1005
pins: 1, 2

## 600L6R2BT200T
designator C?, comment 6.2pF
CAP CER 6.2PF 200V C0G/NP0 0402; Part Number: 600L6R2BT200T; Manufacturer: American Technical Ceramics; Temperature Coefficient: C0G, NP0; Tolerance: ±0.1pF; Value: 6.2pF; Applications: RF, Microwave, High Frequency, Bypass, Decoupling; Capacitance: 6.2pF; ComponentLink1Description: Datasheet; ComponentLink1URL: http://www.atceramics.com/UserFiles/600l.pdf; ComponentLink2Description: DigiKey Link; ComponentLink2URL: http://digikey.com/product-detail/en/american-technical-ceramics/600L6R2BT200T/1284-1133-1-ND/3905488; Device Package: 0402 (1005 Metric); Features: High Q, Low Loss, Ultra Low ESR; LastUpdated: 9/2/2020 1:02:07 AM; Lifecycle Status: Active; Minimum Order: 1; Mounting Type: Surface Mount, MLCC; Operating Temperature: -55°C ~ 125°C; Package / Case: 0402 (1005 Metric); Packaging: TapeAndReel; PartId: 9397; Part Status: Active; Price: 0.33; Series: ATC 600L; Size / Dimension: 0.040" L x 0.020" W (1.02mm x 0.51mm); Supplier 1: DigiKey; Supplier Part Number 1: 1284-1133-1-ND; Thickness (Max): 0.024" (0.60mm); Voltage - Rated: 200V
footprint CAP 0402_1005
pins: 1, 2

## 600L6R8BT200T
designator C?, comment 6.8pF
CAP CER 6.8PF 200V C0G/NP0 0402; Part Number: 600L6R8BT200T; Manufacturer: American Technical Ceramics; Temperature Coefficient: C0G, NP0; Tolerance: ±0.1pF; Value: 6.8pF; Applications: RF, Microwave, High Frequency, Bypass, Decoupling; Capacitance: 6.8pF; ComponentLink1Description: Datasheet; ComponentLink1URL: http://www.atceramics.com/UserFiles/600l.pdf; ComponentLink2Description: DigiKey Link; ComponentLink2URL: http://digikey.com/product-detail/en/american-technical-ceramics/600L6R8BT200T/1284-1134-1-ND/3905489; Device Package: 0402 (1005 Metric); Features: High Q, Low Loss, Ultra Low ESR; LastUpdated: 9/2/2020 1:02:19 AM; Lifecycle Status: Active; Minimum Order: 1; Mounting Type: Surface Mount, MLCC; Operating Temperature: -55°C ~ 125°C; Package / Case: 0402 (1005 Metric); Packaging: TapeAndReel; PartId: 4246; Part Status: Active; Price: 0.48; Series: ATC 600L; Size / Dimension: 0.040" L x 0.020" W (1.02mm x 0.51mm); Supplier 1: DigiKey; Supplier Part Number 1: 1284-1134-1-ND; Thickness (Max): 0.024" (0.60mm); Voltage - Rated: 200V
footprint CAP 0402_1005
pins: 1, 2

## 600L7R5BT200T
designator C?, comment 7.5pF
CAP CER 7.5PF 200V C0G/NP0 0402; Part Number: 600L7R5BT200T; Manufacturer: American Technical Ceramics; Temperature Coefficient: C0G, NP0; Tolerance: ±0.1pF; Value: 7.5pF; Applications: RF, Microwave, High Frequency, Bypass, Decoupling; Capacitance: 7.5pF; ComponentLink1Description: Datasheet; ComponentLink1URL: http://www.atceramics.com/UserFiles/600l.pdf; ComponentLink2Description: DigiKey Link; ComponentLink2URL: http://digikey.com/product-detail/en/american-technical-ceramics/600L7R5BT200T/1284-1135-1-ND/3905490; Device Package: 0402 (1005 Metric); Features: High Q, Low Loss, Ultra Low ESR; LastUpdated: 9/2/2020 1:02:10 AM; Lifecycle Status: Active; Minimum Order: 1; Mounting Type: Surface Mount, MLCC; Operating Temperature: -55°C ~ 125°C; Package / Case: 0402 (1005 Metric); Packaging: TapeAndReel; PartId: 8005; Part Status: Active; Price: 0.43; Series: ATC 600L; Size / Dimension: 0.040" L x 0.020" W (1.02mm x 0.51mm); Supplier 1: DigiKey; Supplier Part Number 1: 1284-1135-1-ND; Thickness (Max): 0.024" (0.60mm); Voltage - Rated: 200V
footprint CAP 0402_1005
pins: 1, 2

## 600L8R2BT200T
designator C?, comment 8.2pF
CAP CER 8.2PF 200V C0G/NP0 0402; Part Number: 600L8R2BT200T; Manufacturer: American Technical Ceramics; Temperature Coefficient: C0G, NP0; Tolerance: ±0.1pF; Value: 8.2pF; Applications: RF, Microwave, High Frequency, Bypass, Decoupling; Capacitance: 8.2pF; ComponentLink1Description: Datasheet; ComponentLink1URL: http://www.atceramics.com/UserFiles/600l.pdf; ComponentLink2Description: DigiKey Link; ComponentLink2URL: http://digikey.com/product-detail/en/american-technical-ceramics/600L8R2BT200T/1284-1136-1-ND/3905491; Device Package: 0402 (1005 Metric); Features: High Q, Low Loss, Ultra Low ESR; LastUpdated: 9/2/2020 1:02:19 AM; Lifecycle Status: Active; Minimum Order: 1; Mounting Type: Surface Mount, MLCC; Operating Temperature: -55°C ~ 125°C; Package / Case: 0402 (1005 Metric); Packaging: TapeAndReel; PartId: 4243; Part Status: Active; Price: 0.48; Series: ATC 600L; Size / Dimension: 0.040" L x 0.020" W (1.02mm x 0.51mm); Supplier 1: DigiKey; Supplier Part Number 1: 1284-1136-1-ND; Thickness (Max): 0.024" (0.60mm); Voltage - Rated: 200V
footprint CAP 0402_1005
pins: 1, 2

## 600L8R2BW200T
designator C?, comment 8.2pF
CAP CER 8.2PF 200V NP0 0402; Part Number: 600L8R2BW200T; Manufacturer: American Technical Ceramics; Temperature Coefficient: C0G, NP0; Tolerance: ±0.1pF; Value: 8.2pF; Applications: RF, Microwave, High Frequency, Bypass, Decoupling; Capacitance: 8.2pF; ComponentLink1Description: Datasheet; ComponentLink1URL: http://www.atceramics.com/UserFiles/600l.pdf; ComponentLink2Description: DigiKey Link; ComponentLink2URL: http://digikey.com/product-detail/en/american-technical-ceramics/600L8R2BW200T/1284-1928-1-ND/9450733; Device Package: 0402 (1005 Metric); Features: High Q, Low Loss, Ultra Low ESR; LastUpdated: 9/2/2020 1:02:11 AM; Lifecycle Status: Active; Minimum Order: 1; Mounting Type: Surface Mount, MLCC; Operating Temperature: -55°C ~ 125°C; Package / Case: 0402 (1005 Metric); Packaging: TapeAndReel; PartId: 7921; Part Status: Active; Price: 0.90; Series: ATC 600L; Size / Dimension: 0.040" L x 0.020" W (1.02mm x 0.51mm); Supplier 1: DigiKey; Supplier Part Number 1: 1284-1928-1-ND; Thickness (Max): 0.024" (0.60mm); Voltage - Rated: 200V
footprint CAP 0402_1005
pins: 1, 2

## 600L8R2CT200T
designator C?, comment 8.2pF
CAP CER 8.2PF 200V NP0 0402; Part Number: 600L8R2CT200T; Manufacturer: American Technical Ceramics; Temperature Coefficient: C0G, NP0; Tolerance: ±0.25pF; Value: 8.2pF; Applications: RF, Microwave, High Frequency, Bypass, Decoupling; Capacitance: 8.2pF; ComponentLink1Description: Datasheet; ComponentLink1URL: http://www.atceramics.com/UserFiles/600l.pdf; ComponentLink2Description: DigiKey Link; ComponentLink2URL: http://digikey.com/product-detail/en/american-technical-ceramics/600L8R2CT200T/1284-1872-1-ND/8269406; Device Package: 0402 (1005 Metric); Features: High Q, Low Loss, Ultra Low ESR; LastUpdated: 9/2/2020 1:02:10 AM; Lifecycle Status: Active; Minimum Order: 1; Mounting Type: Surface Mount, MLCC; Operating Temperature: -55°C ~ 125°C; Package / Case: 0402 (1005 Metric); Packaging: TapeAndReel; PartId: 7995; Part Status: Active; Price: 0.38; Series: ATC 600L; Size / Dimension: 0.040" L x 0.020" W (1.02mm x 0.51mm); Supplier 1: DigiKey; Supplier Part Number 1: 1284-1872-1-ND; Thickness (Max): 0.024" (0.60mm); Voltage - Rated: 200V
footprint CAP 0402_1005
pins: 1, 2

## 600L9R1BT200T
designator C?, comment 9.1pF
CAP CER 9.1PF 200V C0G/NP0 0402; Part Number: 600L9R1BT200T; Manufacturer: American Technical Ceramics; Temperature Coefficient: C0G, NP0; Tolerance: ±0.1pF; Value: 9.1pF; Applications: RF, Microwave, High Frequency, Bypass, Decoupling; Capacitance: 9.1pF; ComponentLink1Description: Datasheet; ComponentLink1URL: http://www.atceramics.com/UserFiles/600l.pdf; ComponentLink2Description: DigiKey Link; ComponentLink2URL: http://digikey.com/product-detail/en/american-technical-ceramics/600L9R1BT200T/1284-1137-1-ND/3905492; Device Package: 0402 (1005 Metric); Features: High Q, Low Loss, Ultra Low ESR; LastUpdated: 9/2/2020 1:02:19 AM; Lifecycle Status: Active; Minimum Order: 1; Mounting Type: Surface Mount, MLCC; Operating Temperature: -55°C ~ 125°C; Package / Case: 0402 (1005 Metric); Packaging: TapeAndReel; PartId: 4249; Part Status: Active; Price: 0.48; Series: ATC 600L; Size / Dimension: 0.040" L x 0.020" W (1.02mm x 0.51mm); Supplier 1: DigiKey; Supplier Part Number 1: 1284-1137-1-ND; Thickness (Max): 0.024" (0.60mm); Voltage - Rated: 200V
footprint CAP 0402_1005
pins: 1, 2

## 600L9R1BW200T
designator C?, comment 9.1pF
CAP CER 9.1PF 200V NP0 0402; Part Number: 600L9R1BW200T; Manufacturer: American Technical Ceramics; Temperature Coefficient: C0G, NP0; Tolerance: ±0.1pF; Value: 9.1pF; Applications: RF, Microwave, High Frequency, Bypass, Decoupling; Capacitance: 9.1pF; ComponentLink1Description: Datasheet; ComponentLink1URL: http://www.atceramics.com/UserFiles/600l.pdf; ComponentLink2Description: DigiKey Link; ComponentLink2URL: http://digikey.com/product-detail/en/american-technical-ceramics/600L9R1BW200T/1284-1929-1-ND/9450734; Device Package: 0402 (1005 Metric); Features: High Q, Low Loss, Ultra Low ESR; LastUpdated: 9/2/2020 1:02:11 AM; Lifecycle Status: Active; Minimum Order: 1; Mounting Type: Surface Mount, MLCC; Operating Temperature: -55°C ~ 125°C; Package / Case: 0402 (1005 Metric); Packaging: TapeAndReel; PartId: 7924; Part Status: Active; Price: 0.90; Series: ATC 600L; Size / Dimension: 0.040" L x 0.020" W (1.02mm x 0.51mm); Supplier 1: DigiKey; Supplier Part Number 1: 1284-1929-1-ND; Thickness (Max): 0.024" (0.60mm); Voltage - Rated: 200V
footprint CAP 0402_1005
pins: 1, 2

## 600L100FT200T
designator C?, comment 10pF
CAP CER 10PF 200V C0G/NP0 0402; Part Number: 600L100FT200T; Manufacturer: American Technical Ceramics; Temperature Coefficient: C0G, NP0; Tolerance: ±1%; Value: 10pF; Applications: RF, Microwave, High Frequency, Bypass, Decoupling; Capacitance: 10pF; ComponentLink1Description: Datasheet; ComponentLink1URL: http://www.atceramics.com/UserFiles/600l.pdf; ComponentLink2Description: DigiKey Link; ComponentLink2URL: http://digikey.com/product-detail/en/american-technical-ceramics/600L100FT200T/1284-1095-1-ND/3905368; Device Package: 0402 (1005 Metric); Features: High Q, Low Loss, Ultra Low ESR; LastUpdated: 9/2/2020 1:02:19 AM; Lifecycle Status: Active; Minimum Order: 1; Mounting Type: Surface Mount, MLCC; Operating Temperature: -55°C ~ 125°C; Package / Case: 0402 (1005 Metric); Packaging: TapeAndReel; PartId: 4252; Part Status: Active; Price: 0.54; Series: ATC 600L; Size / Dimension: 0.040" L x 0.020" W (1.02mm x 0.51mm); Supplier 1: DigiKey; Supplier Part Number 1: 1284-1095-1-ND; Thickness (Max): 0.024" (0.60mm); Voltage - Rated: 200V
footprint CAP 0402_1005
pins: 1, 2

## 600L100FW200T
designator C?, comment 10pF
CAP CER 10PF 200V NP0 0402; Part Number: 600L100FW200T; Manufacturer: American Technical Ceramics; Temperature Coefficient: C0G, NP0; Tolerance: ±1%; Value: 10pF; Applications: RF, Microwave, High Frequency, Bypass, Decoupling; Capacitance: 10pF; ComponentLink1Description: Datasheet; ComponentLink1URL: http://www.atceramics.com/UserFiles/600l.pdf; ComponentLink2Description: DigiKey Link; ComponentLink2URL: http://digikey.com/product-detail/en/american-technical-ceramics/600L100FW200T/1284-1864-1-ND/8269398; Device Package: 0402 (1005 Metric); Features: High Q, Low Loss, Ultra Low ESR; LastUpdated: 9/2/2020 1:02:18 AM; Lifecycle Status: Active; Minimum Order: 1; Mounting Type: Surface Mount, MLCC; Operating Temperature: -55°C ~ 125°C; Package / Case: 0402 (1005 Metric); Packaging: TapeAndReel; PartId: 4311; Part Status: Active; Price: 0.54; Series: ATC 600L; Size / Dimension: 0.040" L x 0.020" W (1.02mm x 0.51mm); Supplier 1: DigiKey; Supplier Part Number 1: 1284-1864-1-ND; Thickness (Max): 0.024" (0.60mm); Voltage - Rated: 200V
footprint CAP 0402_1005
pins: 1, 2

## 600L100GT200T
designator C?, comment 10pF
CAP CER 10PF 200V NP0 0402; Part Number: 600L100GT200T; Manufacturer: American Technical Ceramics; Temperature Coefficient: C0G, NP0; Tolerance: ±2%; Value: 10pF; Applications: RF, Microwave, High Frequency, Bypass, Decoupling; Capacitance: 10pF; ComponentLink1Description: Datasheet; ComponentLink1URL: http://www.atceramics.com/UserFiles/600l.pdf; ComponentLink2Description: DigiKey Link; ComponentLink2URL: http://digikey.com/product-detail/en/american-technical-ceramics/600L100GT200T/1284-1907-1-ND/9450712; Device Package: 0402 (1005 Metric); Features: High Q, Low Loss, Ultra Low ESR; LastUpdated: 9/2/2020 1:02:17 AM; Lifecycle Status: Active; Minimum Order: 1; Mounting Type: Surface Mount, MLCC; Operating Temperature: -55°C ~ 125°C; Package / Case: 0402 (1005 Metric); Packaging: TapeAndReel; PartId: 5016; Part Status: Active; Price: 0.33; Series: ATC 600L; Size / Dimension: 0.040" L x 0.020" W (1.02mm x 0.51mm); Supplier 1: DigiKey; Supplier Part Number 1: 1284-1907-1-ND; Thickness (Max): 0.024" (0.60mm); Voltage - Rated: 200V
footprint CAP 0402_1005
pins: 1, 2

## 600L100JT200T
designator C?, comment 10pF
CAP CER 10PF 200V C0G/NP0 0402; Part Number: 600L100JT200T; Manufacturer: American Technical Ceramics; Temperature Coefficient: C0G, NP0; Tolerance: ±5%; Value: 10pF; Applications: RF, Microwave, High Frequency, Bypass, Decoupling; Capacitance: 10pF; ComponentLink1Description: Datasheet; ComponentLink1URL: http://www.atceramics.com/UserFiles/600l.pdf; ComponentLink2Description: DigiKey Link; ComponentLink2URL: http://digikey.com/product-detail/en/american-technical-ceramics/600L100JT200T/1284-1096-1-ND/3905459; Device Package: 0402 (1005 Metric); Features: High Q, Low Loss, Ultra Low ESR; LastUpdated: 9/2/2020 1:02:13 AM; Lifecycle Status: Active; Minimum Order: 1; Mounting Type: Surface Mount, MLCC; Operating Temperature: -55°C ~ 125°C; Package / Case: 0402 (1005 Metric); Packaging: TapeAndReel; PartId: 6848; Part Status: Active; Price: 0.21; Series: ATC 600L; Size / Dimension: 0.040" L x 0.020" W (1.02mm x 0.51mm); Supplier 1: DigiKey; Supplier Part Number 1: 1284-1096-1-ND; Thickness (Max): 0.024" (0.60mm); Voltage - Rated: 200V
footprint CAP 0402_1005
pins: 1, 2

## 600L110FT200T
designator C?, comment 11pF
CAP CER 11PF 200V C0G/NP0 0402; Part Number: 600L110FT200T; Manufacturer: American Technical Ceramics; Temperature Coefficient: C0G, NP0; Tolerance: ±1%; Value: 11pF; Applications: RF, Microwave, High Frequency, Bypass, Decoupling; Capacitance: 11pF; ComponentLink1Description: Datasheet; ComponentLink1URL: http://www.atceramics.com/UserFiles/600l.pdf; ComponentLink2Description: DigiKey Link; ComponentLink2URL: http://digikey.com/product-detail/en/american-technical-ceramics/600L110FT200T/1284-1097-1-ND/3905460; Device Package: 0402 (1005 Metric); Features: High Q, Low Loss, Ultra Low ESR; LastUpdated: 9/2/2020 1:02:24 AM; Lifecycle Status: Active; Minimum Order: 1; Mounting Type: Surface Mount, MLCC; Operating Temperature: -55°C ~ 125°C; Package / Case: 0402 (1005 Metric); Packaging: TapeAndReel; PartId: 2067; Part Status: Active; Price: 0.54; Series: ATC 600L; Size / Dimension: 0.040" L x 0.020" W (1.02mm x 0.51mm); Supplier 1: DigiKey; Supplier Part Number 1: 1284-1097-1-ND; Thickness (Max): 0.024" (0.60mm); Voltage - Rated: 200V
footprint CAP 0402_1005
pins: 1, 2

## 600L120FT200T
designator C?, comment 12pF
CAP CER 12PF 200V C0G/NP0 0402; Part Number: 600L120FT200T; Manufacturer: American Technical Ceramics; Temperature Coefficient: C0G, NP0; Tolerance: ±1%; Value: 12pF; Applications: RF, Microwave, High Frequency, Bypass, Decoupling; Capacitance: 12pF; ComponentLink1Description: Datasheet; ComponentLink1URL: http://www.atceramics.com/UserFiles/600l.pdf; ComponentLink2Description: DigiKey Link; ComponentLink2URL: http://digikey.com/product-detail/en/american-technical-ceramics/600L120FT200T/1284-1098-1-ND/3905369; Device Package: 0402 (1005 Metric); Features: High Q, Low Loss, Ultra Low ESR; LastUpdated: 9/2/2020 1:02:19 AM; Lifecycle Status: Active; Minimum Order: 1; Mounting Type: Surface Mount, MLCC; Operating Temperature: -55°C ~ 125°C; Package / Case: 0402 (1005 Metric); Packaging: TapeAndReel; PartId: 4256; Part Status: Active; Price: 0.54; Series: ATC 600L; Size / Dimension: 0.040" L x 0.020" W (1.02mm x 0.51mm); Supplier 1: DigiKey; Supplier Part Number 1: 1284-1098-1-ND; Thickness (Max): 0.024" (0.60mm); Voltage - Rated: 200V
footprint CAP 0402_1005
pins: 1, 2

## 600L120FW200T
designator C?, comment 12pF
CAP CER 12PF 200V NP0 0402; Part Number: 600L120FW200T; Manufacturer: American Technical Ceramics; Temperature Coefficient: C0G, NP0; Tolerance: ±1%; Value: 12pF; Applications: RF, Microwave, High Frequency, Bypass, Decoupling; Capacitance: 12pF; ComponentLink1Description: Datasheet; ComponentLink1URL: http://www.atceramics.com/UserFiles/600l.pdf; ComponentLink2Description: DigiKey Link; ComponentLink2URL: http://digikey.com/product-detail/en/american-technical-ceramics/600L120FW200T/478-12297-1-ND/9602734; Device Package: 0402 (1005 Metric); Features: High Q, Low Loss, Ultra Low ESR; LastUpdated: 9/2/2020 1:02:08 AM; Lifecycle Status: Active; Minimum Order: 1; Mounting Type: Surface Mount, MLCC; Operating Temperature: -55°C ~ 125°C; Package / Case: 0402 (1005 Metric); Packaging: TapeAndReel; PartId: 9205; Part Status: Active; Price: 0.54; Series: ATC 600L; Size / Dimension: 0.040" L x 0.020" W (1.02mm x 0.51mm); Supplier 1: DigiKey; Supplier Part Number 1: 478-12297-1-ND; Thickness (Max): 0.024" (0.60mm); Voltage - Rated: 200V
footprint CAP 0402_1005
pins: 1, 2

## 600L120GT200T
designator C?, comment 12pF
CAP CER 12PF 200V C0G/NP0 0402; Part Number: 600L120GT200T; Manufacturer: American Technical Ceramics; Temperature Coefficient: C0G, NP0; Tolerance: ±2%; Value: 12pF; Applications: RF, Microwave, High Frequency, Bypass, Decoupling; Capacitance: 12pF; ComponentLink1Description: Datasheet; ComponentLink1URL: http://www.atceramics.com/UserFiles/600l.pdf; ComponentLink2Description: DigiKey Link; ComponentLink2URL: http://digikey.com/product-detail/en/american-technical-ceramics/600L120GT200T/1284-1358-1-ND/5767794; Device Package: 0402 (1005 Metric); Features: High Q, Low Loss, Ultra Low ESR; LastUpdated: 9/2/2020 1:02:24 AM; Lifecycle Status: Active; Minimum Order: 1; Mounting Type: Surface Mount, MLCC; Operating Temperature: -55°C ~ 125°C; Package / Case: 0402 (1005 Metric); Packaging: TapeAndReel; PartId: 2065; Part Status: Active; Price: 0.68; Series: ATC 600L; Size / Dimension: 0.040" L x 0.020" W (1.02mm x 0.51mm); Supplier 1: DigiKey; Supplier Part Number 1: 1284-1358-1-ND; Thickness (Max): 0.024" (0.60mm); Voltage - Rated: 200V
footprint CAP 0402_1005
pins: 1, 2

## 600L120JT200T
designator C?, comment 12pF
CAP CER 12PF 200V C0G/NP0 0402; Part Number: 600L120JT200T; Manufacturer: American Technical Ceramics; Temperature Coefficient: C0G, NP0; Tolerance: ±5%; Value: 12pF; Applications: RF, Microwave, High Frequency, Bypass, Decoupling; Capacitance: 12pF; ComponentLink1Description: Datasheet; ComponentLink1URL: http://www.atceramics.com/UserFiles/600l.pdf; ComponentLink2Description: DigiKey Link; ComponentLink2URL: http://digikey.com/product-detail/en/american-technical-ceramics/600L120JT200T/1284-1099-1-ND/3905461; Device Package: 0402 (1005 Metric); Features: High Q, Low Loss, Ultra Low ESR; LastUpdated: 9/2/2020 1:02:13 AM; Lifecycle Status: Active; Minimum Order: 1; Mounting Type: Surface Mount, MLCC; Operating Temperature: -55°C ~ 125°C; Package / Case: 0402 (1005 Metric); Packaging: TapeAndReel; PartId: 6632; Part Status: Active; Price: 0.24; Series: ATC 600L; Size / Dimension: 0.040" L x 0.020" W (1.02mm x 0.51mm); Supplier 1: DigiKey; Supplier Part Number 1: 1284-1099-1-ND; Thickness (Max): 0.024" (0.60mm); Voltage - Rated: 200V
footprint CAP 0402_1005
pins: 1, 2

## 600L150FT200T
designator C?, comment 15pF
CAP CER 15PF 200V C0G/NP0 0402; Part Number: 600L150FT200T; Manufacturer: American Technical Ceramics; Temperature Coefficient: C0G, NP0; Tolerance: ±1%; Value: 15pF; Applications: RF, Microwave, High Frequency, Bypass, Decoupling; Capacitance: 15pF; ComponentLink1Description: Datasheet; ComponentLink1URL: http://www.atceramics.com/UserFiles/600l.pdf; ComponentLink2Description: DigiKey Link; ComponentLink2URL: http://digikey.com/product-detail/en/american-technical-ceramics/600L150FT200T/1284-1359-1-ND/5767795; Device Package: 0402 (1005 Metric); Features: High Q, Low Loss, Ultra Low ESR; LastUpdated: 9/2/2020 1:02:05 AM; Lifecycle Status: Active; Minimum Order: 1; Mounting Type: Surface Mount, MLCC; Operating Temperature: -55°C ~ 125°C; Package / Case: 0402 (1005 Metric); Packaging: TapeAndReel; PartId: 10360; Part Status: Active; Price: 0.97; Series: ATC 600L; Size / Dimension: 0.040" L x 0.020" W (1.02mm x 0.51mm); Supplier 1: DigiKey; Supplier Part Number 1: 1284-1359-1-ND; Thickness (Max): 0.024" (0.60mm); Voltage - Rated: 200V
footprint CAP 0402_1005
pins: 1, 2

## 600L150FW200T
designator C?, comment 15pF
CAP CER 15PF 200V NP0 0402; Part Number: 600L150FW200T; Manufacturer: American Technical Ceramics; Temperature Coefficient: C0G, NP0; Tolerance: ±1%; Value: 15pF; Applications: RF, Microwave, High Frequency, Bypass, Decoupling; Capacitance: 15pF; ComponentLink1Description: Datasheet; ComponentLink1URL: http://www.atceramics.com/UserFiles/600l.pdf; ComponentLink2Description: DigiKey Link; ComponentLink2URL: http://digikey.com/product-detail/en/american-technical-ceramics/600L150FW200T/1284-1908-1-ND/9450713; Device Package: 0402 (1005 Metric); Features: High Q, Low Loss, Ultra Low ESR; LastUpdated: 9/2/2020 1:02:24 AM; Lifecycle Status: Active; Minimum Order: 1; Mounting Type: Surface Mount, MLCC; Operating Temperature: -55°C ~ 125°C; Package / Case: 0402 (1005 Metric); Packaging: TapeAndReel; PartId: 2003; Part Status: Active; Price: 0.97; Series: ATC 600L; Size / Dimension: 0.040" L x 0.020" W (1.02mm x 0.51mm); Supplier 1: DigiKey; Supplier Part Number 1: 1284-1908-1-ND; Thickness (Max): 0.024" (0.60mm); Voltage - Rated: 200V
footprint CAP 0402_1005
pins: 1, 2